# Altium schematic symbol library IC_Digital.SchLib: 9 symbols
Pins are listed as number, name and electrical type; pins without a type are passive.

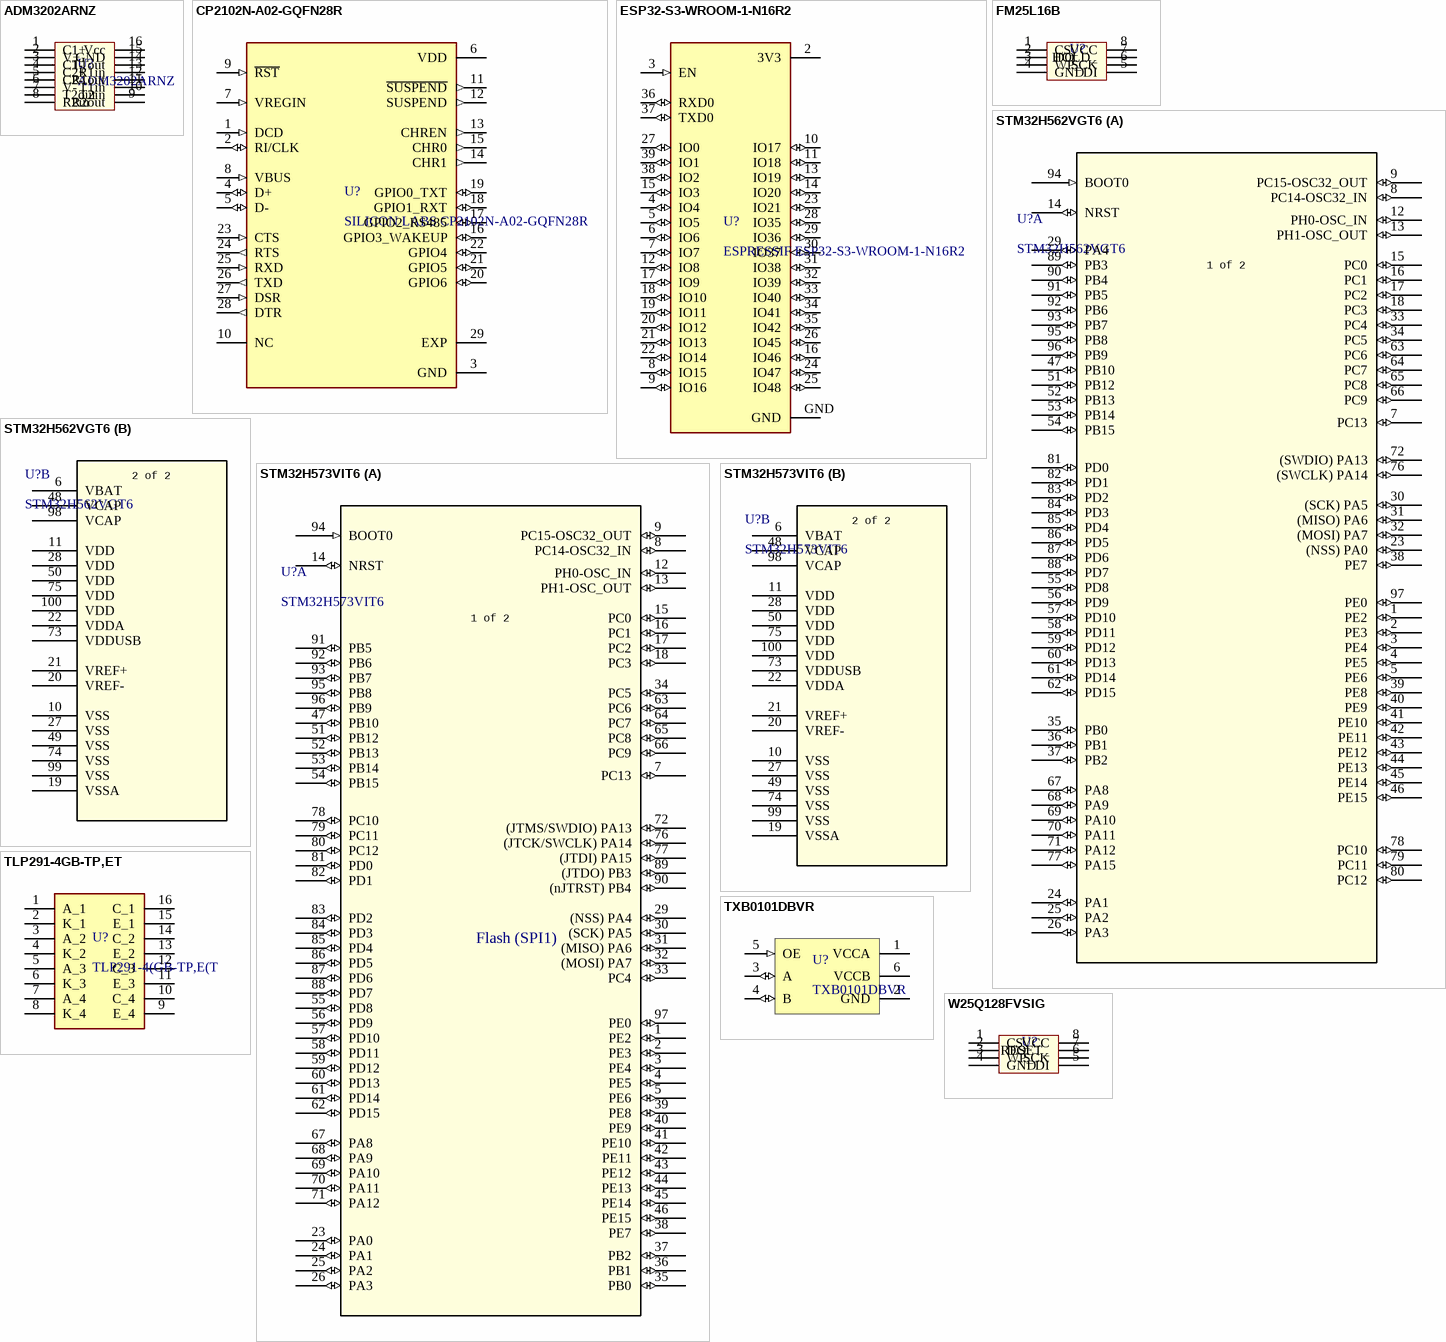
[diagram p0: symbols ADM3202ARNZ to W25Q128FVSIG]

## ADM3202ARNZ
designator U?
note: Original; val: ADM3202ARNZ; sample link: https://www.lcsc.com/product-detail/RS232-ICs_Analog-Devices-ADM3202ARNZ-REEL_C496498.html
footprint 16SOIC_N (SOIC, 16-Leads, Body 9,90x3,90mm, Pitch 1,27mm, IPC Medium Density)
pins: 1 C1+, 2 V+, 3 C1-, 4 C2+, 5 C2-, 6 V-, 7 T2out, 8 R2in, 9 R2out, 10 T2in, 11 T1in, 12 R1out, 13 R1in, 14 T1out, 15 GND, 16 Vcc

## CP2102N-A02-GQFN28R
designator U?, comment SILICON LABS CP2102N-A02-GQFN28R
USB to UART USB 2.0 QFN-28-EP(5x5) Interface Controllers RoHS; val: SILICON LABS CP2102N-A02-GQFN28R; note: *; sample link: https://www.lcsc.com/product-detail/C964632.html?s_z=n_CP2102N-A02-GQFN28
footprint IC_CP2102N-A02-GQFN28R
pins: 1 DCD (in), 2 RI/CLK (io), 3 GND (power), 4 D+ (io), 5 D- (io), 6 VDD (power), 7 VREGIN (in), 8 VBUS (in), 9 ~{RST} (in), 10 NC, 11 ~{SUSPEND} (out), 12 SUSPEND (out), 13 CHREN (out), 14 CHR1 (out), 15 CHR0 (out), 16 GPIO3_WAKEUP (io), 17 GPIO2_RS485 (io), 18 GPIO1_RXT (io), 19 GPIO0_TXT (io), 20 GPIO6 (io), 21 GPIO5 (io), 22 GPIO4 (io), 23 CTS (in), 24 RTS (out), 25 RXD (in), 26 TXD (out), 27 DSR (in), 28 DTR (out), 29 EXP (power)

## ESP32-S3-WROOM-1-N16R2
designator U?, comment ESPRESSIF ESP32-S3-WROOM-1-N16R2
2.4GHz ESP32-S3 On-board PCB Antenna -103.5dBm SMD,25.5x18mm RF Transceiver Modules and Modems RoHS; val: ESPRESSIF ESP32-S3-WROOM-1-N16R2; note: *; sample link: https://www.lcsc.com/product-detail/C2913205.html?s_z=n_esp32-s3
footprint XCVR_ESP32-S3-WROOM-1-N16R2
pins: 2 3V3 (power), 3 EN (in), 4 IO4 (io), 5 IO5 (io), 6 IO6 (io), 7 IO7 (io), 8 IO15 (io), 9 IO16 (io), 10 IO17 (io), 11 IO18 (io), 12 IO8 (io), 13 IO19 (io), 14 IO20 (io), 15 IO3 (io), 16 IO46 (io), 17 IO9 (io), 18 IO10 (io), 19 IO11 (io), 20 IO12 (io), 21 IO13 (io), 22 IO14 (io), 23 IO21 (io), 24 IO47 (io), 25 IO48 (io), 26 IO45 (io), 27 IO0 (io), 28 IO35 (io), 29 IO36 (io), 30 IO37 (io), 31 IO38 (io), 32 IO39 (io), 33 IO40 (io), 34 IO41 (io), 35 IO42 (io), 36 RXD0 (io), 37 TXD0 (io), 38 IO2 (io), 39 IO1 (io), GND (power)

## FM25L16B
designator U?
FM25L16B F-RAM; value: FM25L16B; Supplier 1: Digi-Key; Supplier Part Number 1: FM25L16B-GRA-ND
footprint 8SOIC_N (SOIC, 8-Leads, Body 4,90x3,90mm, Pitch 1,27mm, IPC Medium Density)
pins: 1 CS_, 2 DO, 3 WP_, 4 GND, 5 DI, 6 SCK, 7 HOLD_, 8 VCC

## STM32H562VGT6
designator U?
High-performance, Arm Cortex-M33 with TrustZone, MCU with 1-MByte Flash, 640-Kbyte RAM, 250 MHz CPU; note: Original; val: STM32H562VGT6; sample link: https://www.lcsc.com/product-detail/C22452133.html?s_z=n_STM32H562
footprint LQFP-100_STM
part A pins: 1 PE2 (io), 2 PE3 (io), 3 PE4 (io), 4 PE5 (io), 5 PE6 (io), 7 PC13 (io), 8 PC14-OSC32_IN (io), 9 PC15-OSC32_OUT (io), 12 PH0-OSC_IN (io), 13 PH1-OSC_OUT (io), 14 NRST (io), 15 PC0 (io), 16 PC1 (io), 17 PC2 (io), 18 PC3 (io), 23 (NSS) PA0 (io), 24 PA1 (io), 25 PA2 (io), 26 PA3 (io), 29 PA4 (io), 30 (SCK) PA5 (io), 31 (MISO) PA6 (io), 32 (MOSI) PA7 (io), 33 PC4 (io), 34 PC5 (io), 35 PB0 (io), 36 PB1 (io), 37 PB2 (io), 38 PE7 (io), 39 PE8 (io), 40 PE9 (io), 41 PE10 (io), 42 PE11 (io), 43 PE12 (io), 44 PE13 (io), 45 PE14 (io), 46 PE15 (io), 47 PB10 (io), 51 PB12 (io), 52 PB13 (io), 53 PB14 (io), 54 PB15 (io), 55 PD8 (io), 56 PD9 (io), 57 PD10 (io), 58 PD11 (io), 59 PD12 (io), 60 PD13 (io), 61 PD14 (io), 62 PD15 (io), 63 PC6 (io), 64 PC7 (io), 65 PC8 (io), 66 PC9 (io), 67 PA8 (io), 68 PA9 (io), 69 PA10 (io), 70 PA11 (io), 71 PA12 (io), 72 (SWDIO) PA13 (io), 76 (SWCLK) PA14 (io), 77 PA15 (io), 78 PC10 (io), 79 PC11 (io), 80 PC12 (io), 81 PD0 (io), 82 PD1 (io), 83 PD2 (io), 84 PD3 (io), 85 PD4 (io), 86 PD5 (io), 87 PD6 (io), 88 PD7 (io), 89 PB3 (io), 90 PB4 (io), 91 PB5 (io), 92 PB6 (io), 93 PB7 (io), 94 BOOT0 (in), 95 PB8 (io), 96 PB9 (io), 97 PE0 (io)
part B pins: 6 VBAT (power), 10 VSS (power), 11 VDD (power), 19 VSSA (power), 20 VREF- (power), 21 VREF+ (power), 22 VDDA (power), 27 VSS (power), 28 VDD (power), 48 VCAP (power), 49 VSS (power), 50 VDD (power), 73 VDDUSB (power), 74 VSS (power), 75 VDD (power), 98 VCAP (power), 99 VSS (power), 100 VDD (power)
part A text: 1 of 2
part B text: 2 of 2

## STM32H573VIT6
designator U?
High-performance, Arm Cortex-M33 with TrustZone, MCU with 1-MByte Flash, 640-Kbyte RAM, 250 MHz CPU; note: Original; val: STM32H573VIT6; sample link: https://www.lcsc.com/product-detail/C7545121.html?s_z=n_stm32h573
footprint LQFP-100_STM
part A pins: 1 PE2 (io), 2 PE3 (io), 3 PE4 (io), 4 PE5 (io), 5 PE6 (io), 7 PC13 (io), 8 PC14-OSC32_IN (io), 9 PC15-OSC32_OUT (io), 12 PH0-OSC_IN (io), 13 PH1-OSC_OUT (io), 14 NRST (io), 15 PC0 (io), 16 PC1 (io), 17 PC2 (io), 18 PC3 (io), 23 PA0 (io), 24 PA1 (io), 25 PA2 (io), 26 PA3 (io), 29 (NSS) PA4 (io), 30 (SCK) PA5 (io), 31 (MISO) PA6 (io), 32 (MOSI) PA7 (io), 33 PC4 (io), 34 PC5 (io), 35 PB0 (io), 36 PB1 (io), 37 PB2 (io), 38 PE7 (io), 39 PE8 (io), 40 PE9 (io), 41 PE10 (io), 42 PE11 (io), 43 PE12 (io), 44 PE13 (io), 45 PE14 (io), 46 PE15 (io), 47 PB10 (io), 51 PB12 (io), 52 PB13 (io), 53 PB14 (io), 54 PB15 (io), 55 PD8 (io), 56 PD9 (io), 57 PD10 (io), 58 PD11 (io), 59 PD12 (io), 60 PD13 (io), 61 PD14 (io), 62 PD15 (io), 63 PC6 (io), 64 PC7 (io), 65 PC8 (io), 66 PC9 (io), 67 PA8 (io), 68 PA9 (io), 69 PA10 (io), 70 PA11 (io), 71 PA12 (io), 72 (JTMS/SWDIO) PA13 (io), 76 (JTCK/SWCLK) PA14 (io), 77 (JTDI) PA15 (io), 78 PC10 (io), 79 PC11 (io), 80 PC12 (io), 81 PD0 (io), 82 PD1 (io), 83 PD2 (io), 84 PD3 (io), 85 PD4 (io), 86 PD5 (io), 87 PD6 (io), 88 PD7 (io), 89 (JTDO) PB3 (io), 90 (nJTRST) PB4 (io), 91 PB5 (io), 92 PB6 (io), 93 PB7 (io), 94 BOOT0 (in), 95 PB8 (io), 96 PB9 (io), 97 PE0 (io)
part B pins: 6 VBAT (power), 10 VSS (power), 11 VDD (power), 19 VSSA (power), 20 VREF- (power), 21 VREF+ (power), 22 VDDA (power), 27 VSS (power), 28 VDD (power), 48 VCAP (power), 49 VSS (power), 50 VDD (power), 73 VDDUSB (power), 74 VSS (power), 75 VDD (power), 98 VCAP (power), 99 VSS (power), 100 VDD (power)
part A text: 1 of 2; Flash (SPI1)
part B text: 2 of 2

## TLP291-4GB-TP,ET
designator U?, comment TLP291-4(GB-TP,E(T
4-Channel Optocoupler; note: Original; val: TLP291-4(GB-TP,E(T; sample link: https://www.lcsc.com/product-detail/C60900.html
footprint SO16_TOS
pins: 1 A_1, 2 K_1, 3 A_2, 4 K_2, 5 A_3, 6 K_3, 7 A_4, 8 K_4, 9 E_4, 10 C_4, 11 E_3, 12 C_3, 13 E_2, 14 C_2, 15 E_1, 16 C_1

## TXB0101DBVR
designator U?
1-Bit Bidirectional Voltage-Level Shifter With Auto Direction Sensing and +/-15-kV ESD Protect; note: Original; val: TXB0101DBVR; sample link: https://www.lcsc.com/product-detail/C2652944.html?s_z=n_TXB0101
footprint SOT95P280X145-6N
pins: 1 VCCA (power), 2 GND (power), 3 A (io), 4 B (io), 5 OE (in), 6 VCCB (power)

## W25Q128FVSIG
designator U?  (value not drawn)
FLASH - NOR Memory IC 128Mbit SPI - Quad I/O, QPI 104 MHz 8-SOIC from Winbond Electronics.; note: Original; val: W25Q128FVSIG; sample link: https://www.lcsc.com/product-detail/NOR-FLASH_Winbond-Elec-W25Q128JVSIQ_C113767.html
footprint 8SOIC_208 (SOIC, 8-Leads, Body 5,23x5,23mm, Pitch 1,27mm, IPC Medium Density)
pins: 1 CS_, 2 DO, 3 WP_, 4 GND, 5 DI, 6 SCK, 7 RESET_, 8 VCC